# Altium schematic symbol library Conn,Fuse Clip,Blade,30A Max.Schlib: 1 symbol
Pins are listed as number, name and electrical type; pins without a type are passive.

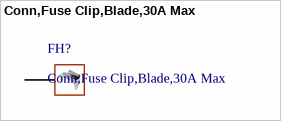
[diagram p0: symbol Conn,Fuse Clip,Blade,30A Max]

## Conn,Fuse Clip,Blade,30A Max
designator FH?
Fuse Clip 30A 500V  Circuit Blade Through Hole
pins: 1